# EAGLE library part 689108131822 (library WR-WTB)
WR-WTB 0.80 mm Male Header Characteristics Properties: Rated Current: 0.5 A Working Voltage: 30 V Operating temperature: -25 °C to +85 °C UL 94-V0 Features: Fine pitch SMT soldering Applications Microelectronic Portable devices Industry 4.0 Details see: www.we-online.com/en/components/products/WR-WTB_0_8_MALE_HEADER#/articles/WR-WTB_08_MM_MALE_SIZE_HORIZONTAL Created by Ella 2025-03-06 2025 (C) Würth Elektronik
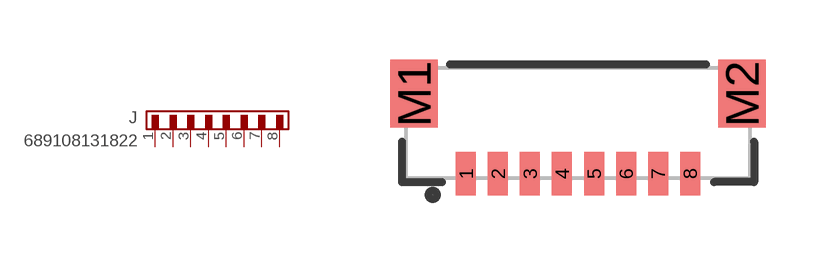
[diagram p132: symbol with the pads of 689108131822; footprint 689108131822]

Designator prefix J

## 689108131822 (CONTACT-RESISTANCE: 20mOhm; DATASHEET: https://www.we-online.com/redexpert/spec/689108131822?ae; GENDER: Male; IR: 0.5A; L: 8.6mm; MOUNT: SMT; PACKAGING: Tape and Reel with Cap; PART-NUMBER: 689108131822; PCB-CABLE-PANEL: PCB; PINS: 8; PITCH: 0.8mm; TYPE: Horizontal; VALUE: 689108131822; WORKING-VOLTAGE: 30V(AC))  [689108131822]
1  1  pas
2  2  pas
3  3  pas
4  4  pas
5  5  pas
6  6  pas
7  7  pas
8  8  pas

## Footprint 689108131822 (pad centres in mm)
WR-WTB 0.80 mm Male Header Horizontal, SMT, 8Pins
smd 0.5 x 1.1: 1 -2.8,0; 2 -2,0; 3 -1.2,0; 4 -0.4,0; 5 0.4,0; 6 1.2,0; 7 2,0; 8 2.8,0
smd 1.2 x 1.7: M1 -4.1,2; M2 4.1,2